# Altium footprint library corporatecam.PcbLib: 52 footprints (part 4 of 4)
Each footprint in its own frame and in the unit in brackets; x right, y up, seen from the top. Pads: shape width x height; smd on the part's side, far side on the other; paste and mask are expansions set on the pad; w line width, h text height; cw(c..) or ccw(c..) is an arc to the next point about the centre after c.
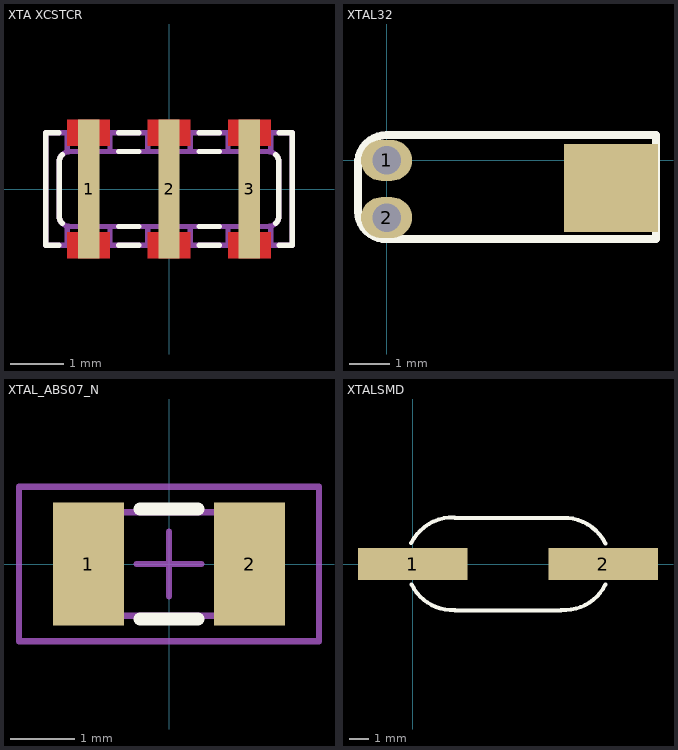
[diagram p3: the footprints below, top view; thin cyan lines are the x and y axes]

## XTA XCSTCR [mm] "MURATA CERALOK RESONATOR 4.00-7.99MHz"
pads (3):
  rect 0.4x2.6 smd paste-0.065: 1(-1.5,0) 2(0,0)
  rect 0.4x2.6 smd paste-0.065 mask+0.102: 3(1.5,0)
Top Layer:
  region: 1.9,-0.8 1.1,-0.8 1.1,-1.3 1.9,-1.3
  rectangle: 1.1,0.8 1.9,1.3
  rectangle: -0.4,0.8 0.4,1.3
  region: 0.4,-0.8 -0.4,-0.8 -0.4,-1.3 0.4,-1.3
  region: -1.1,-0.8 -1.9,-0.8 -1.9,-1.3 -1.1,-1.3
  rectangle: -1.9,0.8 -1.1,1.3
Top Overlay:
  lines w0.1: -2.06,-1.05 -2.3,-1.05 -2.3,1.05 -2.06,1.05 ; -1.991,-0.641 cw(c-1.85,-0.5) -2.05,-0.5 -2.05,0.5 cw(c-1.85,0.5) -1.991,0.641 ; -0.94,-1.05 -0.56,-1.05 ; -0.94,-0.7 -0.56,-0.7 ; -0.94,0.7 -0.56,0.7 ; -0.94,1.05 -0.56,1.05 ; 0.56,-1.05 0.94,-1.05 ; 0.56,-0.7 0.94,-0.7 ; 0.56,0.7 0.94,0.7 ; 0.56,1.05 0.94,1.05 ; 1.991,-0.641 ccw(c1.85,-0.5) 2.05,-0.5 2.05,0.5 ccw(c1.85,0.5) 1.991,0.641 ; 2.06,-1.05 2.3,-1.05 2.3,1.05 2.06,1.05
Top Paste:
  region: 1.835,-0.865 1.165,-0.865 1.165,-1.235 1.835,-1.235
  rectangle: 1.165,0.865 1.835,1.235
  rectangle: -0.335,0.865 0.335,1.235
  region: 0.335,-0.865 -0.335,-0.865 -0.335,-1.235 0.335,-1.235
  region: -1.165,-0.865 -1.835,-0.865 -1.835,-1.235 -1.165,-1.235
  rectangle: -1.835,0.865 -1.165,1.235
Top Solder:
  region: 2.002,-0.698 0.998,-0.698 0.998,-1.402 2.002,-1.402
  rectangle: 0.998,0.698 2.002,1.402
  rectangle: -0.502,0.698 0.502,1.402
  region: 0.502,-0.698 -0.502,-0.698 -0.502,-1.402 0.502,-1.402
  region: -0.998,-0.698 -2.002,-0.698 -2.002,-1.402 -0.998,-1.402
  rectangle: -2.002,0.698 -0.998,1.402
  rectangle: -2.002,-1.402 -0.998,1.402
  rectangle: -0.502,-1.402 0.502,1.402
  rectangle: 0.998,-1.402 2.002,1.402
Mechanical 1:
  lines w0.1: -1.9,-1.05 -1.9,-0.7 ; -1.9,0.7 -1.9,1.05 ; -1.1,-1.05 -1.1,-0.7 ; -1.1,0.7 -1.1,1.05 ; -0.4,-1.05 -0.4,-0.7 ; -0.4,0.7 -0.4,1.05 ; 0.4,-1.05 0.4,-0.7 ; 0.4,0.7 0.4,1.05 ; 1.1,-1.05 1.1,-0.7 ; 1.1,0.7 1.1,1.05 ; 1.9,-1.05 1.9,-0.7 ; 1.9,0.7 1.9,1.05 ; -2.3,-1.05 -2.3,1.05 -1.7,1.05 ccw(c-1.5,1.05) -1.3,1.05 -0.2,1.05 ccw(c0,1.05) 0.2,1.05 1.3,1.05 ccw(c1.5,1.05) 1.7,1.05 2.3,1.05 2.3,-1.05 1.7,-1.05 ccw(c1.5,-1.05) 1.3,-1.05 0.2,-1.05 ccw(c0,-1.05) -0.2,-1.05 -1.3,-1.05 ccw(c-1.5,-1.05) -1.7,-1.05 -2.3,-1.05 ; -2.05,-0.5 ccw(c-1.85,-0.5) -1.85,-0.7 1.85,-0.7 ccw(c1.85,-0.5) 2.05,-0.5 2.05,0.5 ccw(c1.85,0.5) 1.85,0.7 -1.85,0.7 ccw(c-1.85,0.5) -2.05,0.5 -2.05,-0.5

## XTAL32 [mil]
pads (3):
  oval 50x40 hole 28: 1(0,0) 2(0,-56)
  rect 92.13x86 smd: ""(220,-27)
Top Overlay:
  lines w8: -28,-50 ccw(c-0.5,-49.5) 0,-77 264,-77 264,25 0,25 ccw(c0.5,-3.5) -28,-4 -28,-50

## XTAL_ABS07_N [mm] "Abracon Crystal 3.1x1.5x0.9mm, IPC Nominal"
height 0.9
pads (2):
  rect 1.1x1.9 smd: 1(-1.25,0) 2(1.25,0)
Top Overlay:
  lines w0.2: -0.45,-0.85 0.45,-0.85 ; -0.45,0.85 0.45,0.85
Mechanical 13:
  lines w0.1: -1.6,-0.8 -1.6,0.8 1.6,0.8 1.6,-0.8 -1.6,-0.8
Mechanical 15:
  lines w0.1: -0.5,0 0.5,0 ; 0,-0.5 0,0.5 ; -2.325,-1.2 -2.325,1.2 2.325,1.2 2.325,-1.2 -2.325,-1.2
3D body: height 0.9, standoff 0, extent -1.6,-0.8 1.6,0.8

## XTALSMD [mm]
pads (2):
  rect 5.5x1.6 smd paste-0.128: 1(0,0) 2(9.6,0)
Top Overlay:
  lines w0.2: -0.072,1.052 cw(c2.032,0) 2.101,2.351 ; -0.048,-1.04 ccw(c2.032,0) 2.124,-2.324 ; 2.125,-2.35 7.475,-2.35 ; 2.125,2.325 7.55,2.325 cw(c7.62,0) 9.7,1.04 ; 7.477,-2.322 ccw(c7.62,0) 9.7,-1.04